# Altium footprint library Male Headers Single Row.PcbLib: 19 footprints (part 2 of 2)
Each footprint in its own frame and in the unit in brackets; x right, y up, seen from the top. Pads: shape width x height; smd on the part's side, far side on the other; paste and mask are expansions set on the pad; w line width, h text height; cw(c..) or ccw(c..) is an arc to the next point about the centre after c.
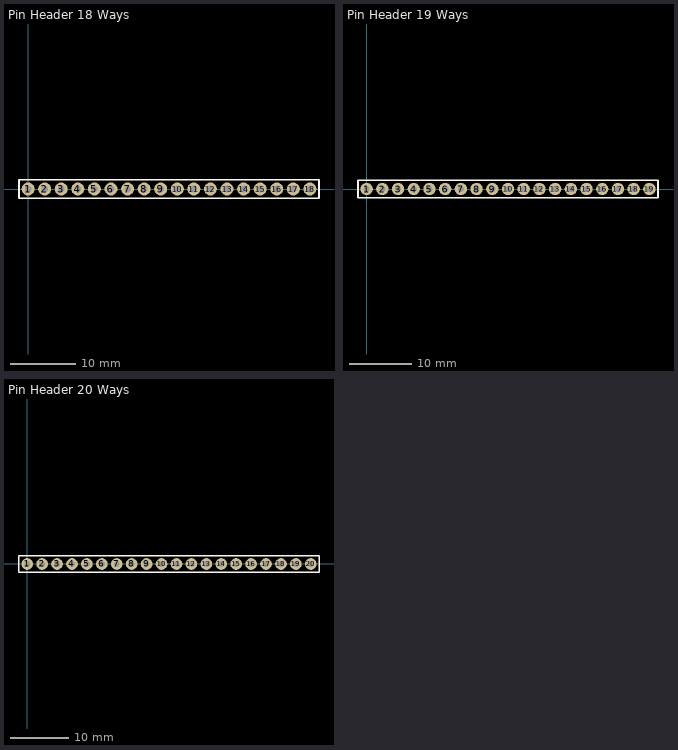
[diagram p1: the footprints below, top view; thin cyan lines are the x and y axes]

## Pin Header 18 Ways [mm] "Connector Header 18 ways PTH 0.100\" (2.54mm)"
pads (18):
  round 2 hole 1: 1(0,0) 2(2.54,0) 3(5.08,0) 4(7.62,0) 5(10.16,0) 6(12.7,0) 7(15.24,0) 8(17.78,0) 9(20.32,0) 10(22.86,0) 11(25.4,0) 12(27.94,0) 13(30.48,0) 14(33.02,0) 15(35.56,0) 16(38.1,0) 17(40.64,0) 18(43.18,0)
Top Overlay:
  lines w0.254: -1.397,-1.397 44.577,-1.397 44.577,1.397 -1.397,1.397 -1.397,-1.397
3D body "pin strip 18 ways.step": height 10.11, standoff -1.49, extent -1.27,-1.27 44.45,1.27

## Pin Header 19 Ways [mm] "Connector Header 19 ways PTH 0.100\" (2.54mm)"
pads (19):
  round 2 hole 1: 1(0,0) 2(2.54,0) 3(5.08,0) 4(7.62,0) 5(10.16,0) 6(12.7,0) 7(15.24,0) 8(17.78,0) 9(20.32,0) 10(22.86,0) 11(25.4,0) 12(27.94,0) 13(30.48,0) 14(33.02,0) 15(35.56,0) 16(38.1,0) 17(40.64,0) 18(43.18,0) 19(45.72,0)
Top Overlay:
  lines w0.254: -1.397,-1.397 47.117,-1.397 47.117,1.397 -1.397,1.397 -1.397,-1.397
3D body "pin strip 19 ways.step": height 10.11, standoff -1.49, extent -1.27,-1.27 46.99,1.27

## Pin Header 20 Ways [mm] "Connector Header 20 ways PTH 0.100\" (2.54mm)"
pads (20):
  round 2 hole 1: 1(0,0) 2(2.54,0) 3(5.08,0) 4(7.62,0) 5(10.16,0) 6(12.7,0) 7(15.24,0) 8(17.78,0) 9(20.32,0) 10(22.86,0) 11(25.4,0) 12(27.94,0) 13(30.48,0) 14(33.02,0) 15(35.56,0) 16(38.1,0) 17(40.64,0) 18(43.18,0) 19(45.72,0) 20(48.26,0)
Top Overlay:
  lines w0.254: -1.397,-1.397 49.657,-1.397 49.657,1.397 -1.397,1.397 -1.397,-1.397
3D body "pin strip 20 ways.step": height 10.11, standoff -1.49, extent -1.27,-1.27 49.53,1.27